# EAGLE library part STM32F0X0KX (library X893)
ARM-based 32-bit MCU STM32F030x4 STM32F030x6 STM32F030x8 <http://www.st.com/st-web-ui/static/active/en/resource/technical/document/datasheet/DM00088500.pdf>
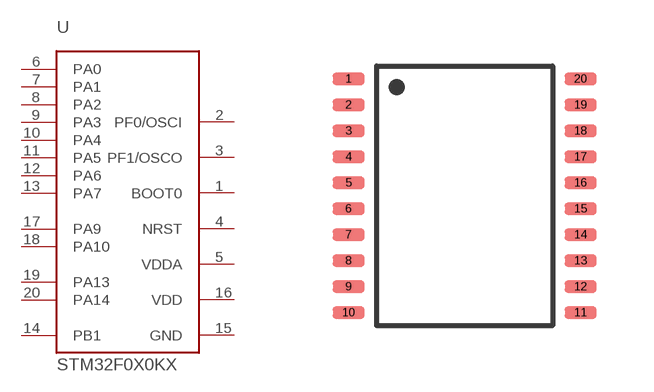
[diagram p212: symbol with the pads of TSSOP20; footprint TSSOP20]

Designator prefix U

## STM32F0X0KX  [TSSOP20]
1  BOOT0  in
2  PF0/OSCI
3  PF1/OSCO
4  NRST  pas
5  VDDA  pas
6  PA0
7  PA1
8  PA2
9  PA3
10  PA4
11  PA5
12  PA6
13  PA7
14  PB1
15  GND  pwr
16  VDD  pwr
17  PA9
18  PA10
19  PA13
20  PA14

## Footprint TSSOP20 (pad centres in mm)
smd 0.8 x 0.3: 1 -2.9,2.925; 2 -2.9,2.275; 3 -2.9,1.625; 4 -2.9,0.975; 5 -2.9,0.325; 6 -2.9,-0.325; 7 -2.9,-0.975; 8 -2.9,-1.625; 9 -2.9,-2.275; 10 -2.9,-2.925; 11 2.9,-2.925; 12 2.9,-2.275; 13 2.9,-1.625; 14 2.9,-0.975; 15 2.9,-0.325; 16 2.9,0.325; 17 2.9,0.975; 18 2.9,1.625; 19 2.9,2.275; 20 2.9,2.925